# EAGLE library part ACJM-MHDR (library Amphenol_By_element14_Batch_1)
MONO 1/4 audio plug.
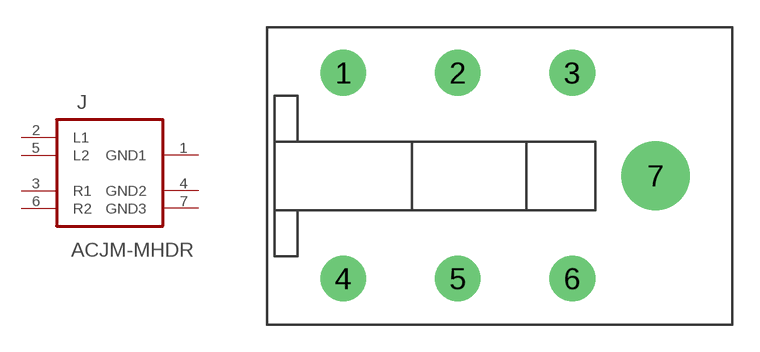
[diagram p0: symbol with the pads of ACJM-MHDR; footprint ACJM-MHDR]

Designator prefix J

## ACJM-MHDR  [ACJM-MHDR]
1  GND1  pas
2  L1  pas
3  R1  pas
4  GND2  pas
5  L2  pas
6  R2  pas
7  GND3  pas

## Footprint ACJM-MHDR (pad centres in mm)
drill 1.455 pad 2.54: 1 4.242,6.099; 2 10.592,6.099; 3 16.942,6.099; 4 4.242,-5.306; 5 10.592,-5.306; 6 16.942,-5.306
drill 2.159 pad 3.81: 7 21.565,0.396